# EAGLE library part Q10_KEYBOARD (library BM14B(0.8)-24DS-0.4V_pinout)
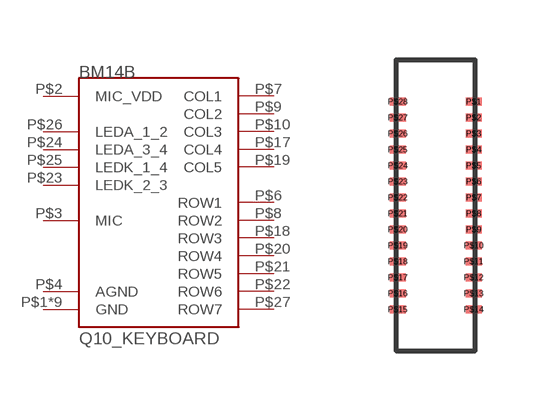
[diagram p0: symbol with the pads of BM14B(0.8)-24DS-0.4V(53); footprint BM14B(0.8)-24DS-0.4V(53)]

Designator prefix BM14B

## Q10_KEYBOARD  [BM14B(0.8)-24DS-0.4V(53)]
P$1  GND  pwr
P$2  MIC_VDD  pwr
P$3  MIC  out
P$4  AGND  pwr
P$5  GND  pwr
P$6  ROW1  out
P$7  COL1  out
P$8  ROW2  out
P$9  COL2  out
P$10  COL3  out
P$11  GND  pwr
P$12  GND  pwr
P$13  GND  pwr
P$14  GND  pwr
P$15  GND  pwr
P$16  GND  pwr
P$17  COL4  out
P$18  ROW3  out
P$19  COL5  out
P$20  ROW4  out
P$21  ROW5  out
P$22  ROW6  out
P$23  LEDK_2_3  pwr
P$24  LEDA_3_4  pwr
P$25  LEDK_1_4  pwr
P$26  LEDA_1_2  pwr
P$27  ROW7  out
P$28  GND  pwr

## Footprint BM14B(0.8)-24DS-0.4V(53) (pad centres in mm)
smd 0.4 x 0.2: P$1 0.95,2.6; P$2 0.95,2.2; P$3 0.95,1.8; P$4 0.95,1.4; P$5 0.95,1; P$6 0.95,0.6; P$7 0.95,0.2; P$8 0.95,-0.2; P$9 0.95,-0.6; P$10 0.95,-1; P$11 0.95,-1.4; P$12 0.95,-1.8; P$13 0.95,-2.2; P$14 0.95,-2.6; P$15 -0.95,-2.6; P$16 -0.95,-2.2; P$17 -0.95,-1.8; P$18 -0.95,-1.4; P$19 -0.95,-1; P$20 -0.95,-0.6; P$21 -0.95,-0.2; P$22 -0.95,0.2; P$23 -0.95,0.6; P$24 -0.95,1; P$25 -0.95,1.4; P$26 -0.95,1.8; P$27 -0.95,2.2; P$28 -0.95,2.6